# EAGLE library part IN-8-2 (library bodger)
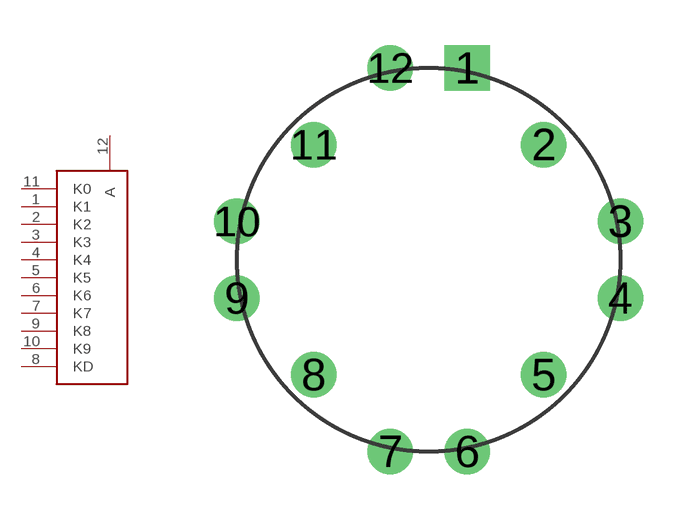
[diagram p24: symbol with the pads of IN-8-2-GRID; footprint IN-8-2-GRID]

Designator prefix -

## IN-8-2  [IN-8-2-GRID]
1  K1  in
2  K2  in
3  K3  in
4  K4  in
5  K5  in
6  K6  in
7  K7  in
8  KD  in
9  K8  in
10  K9  in
11  K0  in
12  A  in

## Footprint IN-8-2-GRID (pad centres in mm)
drill 1 square: 1 1.27,6.35
drill 1: 2 3.81,3.81; 3 6.35,1.27; 4 6.35,-1.27; 5 3.81,-3.81; 6 1.27,-6.35; 7 -1.27,-6.35; 8 -3.81,-3.81; 9 -6.35,-1.27; 10 -6.35,1.27; 11 -3.81,3.81; 12 -1.27,6.35